# EAGLE library part QFN16 (library qfn16)
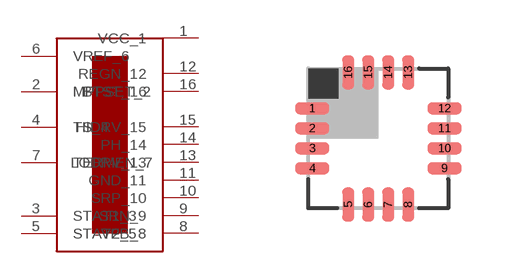
[diagram p0: symbol with the pads of QFN16; footprint QFN16]

Designator prefix -

## QFN16  [QFN16]
1  VCC_1
2  MPPSET_2
3  STAT1_3
4  TS_4
5  STAT2_5
6  VREF_6
7  TERMEN_7
8  VFB_8
9  SRN_9
10  SRP_10
11  GND_11
12  REGN_12
13  LODRV_13
14  PH_14
15  HIDRV_15
16  BTST_16

## Footprint QFN16 (pad centres in mm)
RTE (S-PQFP-N16) 3x3 mm Source: www.ti.com .. tpa6132a2 direct path stereo $.65.pdf
smd 0.85 x 0.3: 1 -1.655,0.75; 2 -1.655,0.25; 3 -1.655,-0.25; 4 -1.655,-0.75; 9 1.655,-0.75; 10 1.655,-0.25; 11 1.655,0.25; 12 1.655,0.75
smd 0.3 x 0.85: 5 -0.75,-1.655; 6 -0.25,-1.655; 7 0.25,-1.655; 8 0.75,-1.655; 13 0.75,1.655; 14 0.25,1.655; 15 -0.25,1.655; 16 -0.75,1.655